# Altium schematic symbol library CSP_library.SchLib: 15 symbols
Pins are listed as number, name and electrical type; pins without a type are passive.

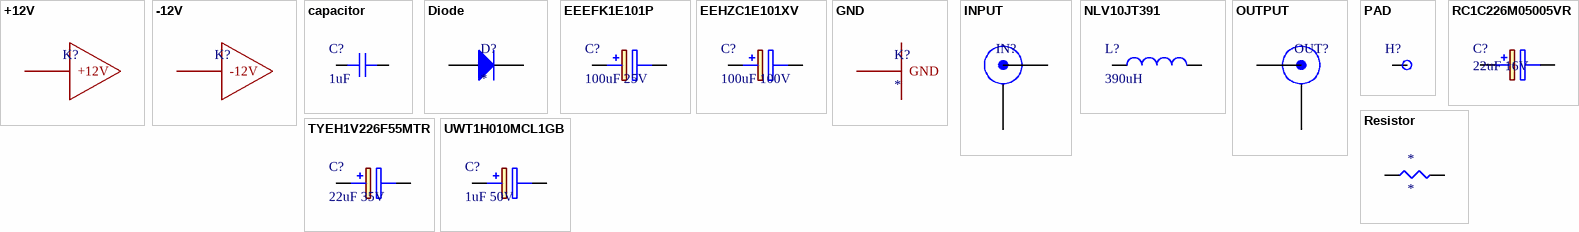
[diagram p0: symbols +12V to UWT1H010MCL1GB]

## +12V
designator K?  (value not drawn)  (no BOM)
footprint PAD
pins: 1 +12V

## -12V
designator K?  (value not drawn)  (no BOM)
footprint PAD
pins: 1 -12V

## capacitor
designator C?, comment 1uF
Value: 1uF
footprint CAPC3216X15L_1206_S (Chip Capacitor, 2-Leads, Body 3,20x1,60mm, IPC High Density)
footprint CAPC3225X15L (Chip Capacitor, 1210, 2-Leads, Body 3,20x2,50mm, IPC High Density)
footprint SMD-0805-C
footprint CAPC450X320X110L60N (Capacitor, Chip; 4.50 mm L X 3.20 mm W X 1.10 mm H body)
footprint CAPC160X80X90L35N (Capacitor, Chip; 1.60 mm L X 0.80 mm W X 0.90 mm H body)
footprint CAPC200X125X110L50N (Capacitor, Chip; 2.00 mm L X 1.25 mm W X 1.10 mm H body)
pins: 1, 2

## Diode
designator D?
footprint SODFL350X110-2N (SODFL, 2-Leads, Body 1.70x3.50mm, IPC Medium Density)
footprint Detector
pins: A, C

## EEEFK1E101P
designator C?, comment 100uF 25V
100uF 25V, cap polarised; Part number: EEEFK1E101P; Dimensions: 8x6.2mm; Voltage: 25V; Value: 100uF
footprint CAPAE660X800N
pins: 1 +, 2 -

## EEHZC1E101XV
designator C?, comment 100uF 100V
100uF 25V, hybrid polarised cap; Part_Number: EEHZC1E101XV; Resistance: 30mOhm; Dimensions: 6.3x7.7mm; Voltage: 100V; Value: 100uF
footprint CAPAE660X800N
pins: 1 +, 2 -

## GND
designator K?
footprint PAD
pins: 1 GND

## INPUT
designator IN?  (value not drawn)  (no BOM)
footprint IN/OUT
pins: 1 IN, 2 GND

## NLV10JT391
designator L?, comment 390uH
390uH, Inductor; Resistance: 36; Value: 390uH; Package: 1210
footprint INDC3225X270N
pins: 1, 2

## OUTPUT
designator OUT?  (value not drawn)  (no BOM)
footprint IN/OUT
pins: 1 IN, 2 GND

## PAD
designator H?  (value not drawn)  (no BOM)
footprint PAD
footprint PAD_rounded
pins: 1

## RC1C226M05005VR
designator C?, comment 22uF 16V
22uF 16V, Capacitor Polarised; Part number: RC1C226M05005VR; Dimension: 5x5.3mm; Value: 22uF; Voltage: 16V
footprint 5x5.5
pins: 1 +, 2 -

## Resistor
designator *
footprint SMD-0805-RES
pins: 1, 2

## TYEH1V226F55MTR
designator C?, comment 22uF 35V
22uF 35V, Capacitor Polarised; Part number: TYEH1V226F55MTR; Value: 22uF; Dimension: 6.3x5.3mm; Voltage: 35V
footprint CAPAE660X550N
pins: 1 +, 2 -

## UWT1H010MCL1GB
designator C?, comment 1uF 50V
1uF 50V, Capacitor Polarised; Part number: UWT1H010MCL1GB; Manufacturer_Name: Nichicon; Dimensions: 4x5.4mm; Value: 1uF; Voltage: 50V
footprint CAPAE430X550N
pins: 1 +, 2 -